# Altium schematic symbol library CC0603MRX5R6BB226.SchLib: 1 symbol
Pins are listed as number, name and electrical type; pins without a type are passive.

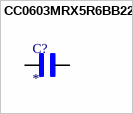
[diagram p0: symbol CC0603MRX5R6BB226]

## CC0603MRX5R6BB226
designator C?
Cap Ceramic 22uF 10V X5R 20% SMD 0603 85Â°C Paper T/R; MF: {'manufacturer': u'Yageo'}; MP: CC0603MRX5R6BB226; Package: None; Price: None; Value: *; Availability: Unavailable
footprint CAPC1608X90
pins: 1, 2